# Altium schematic symbol library CubeSat-Backplane.SchLib: 39 symbols
Pins are listed as number, name and electrical type; pins without a type are passive.

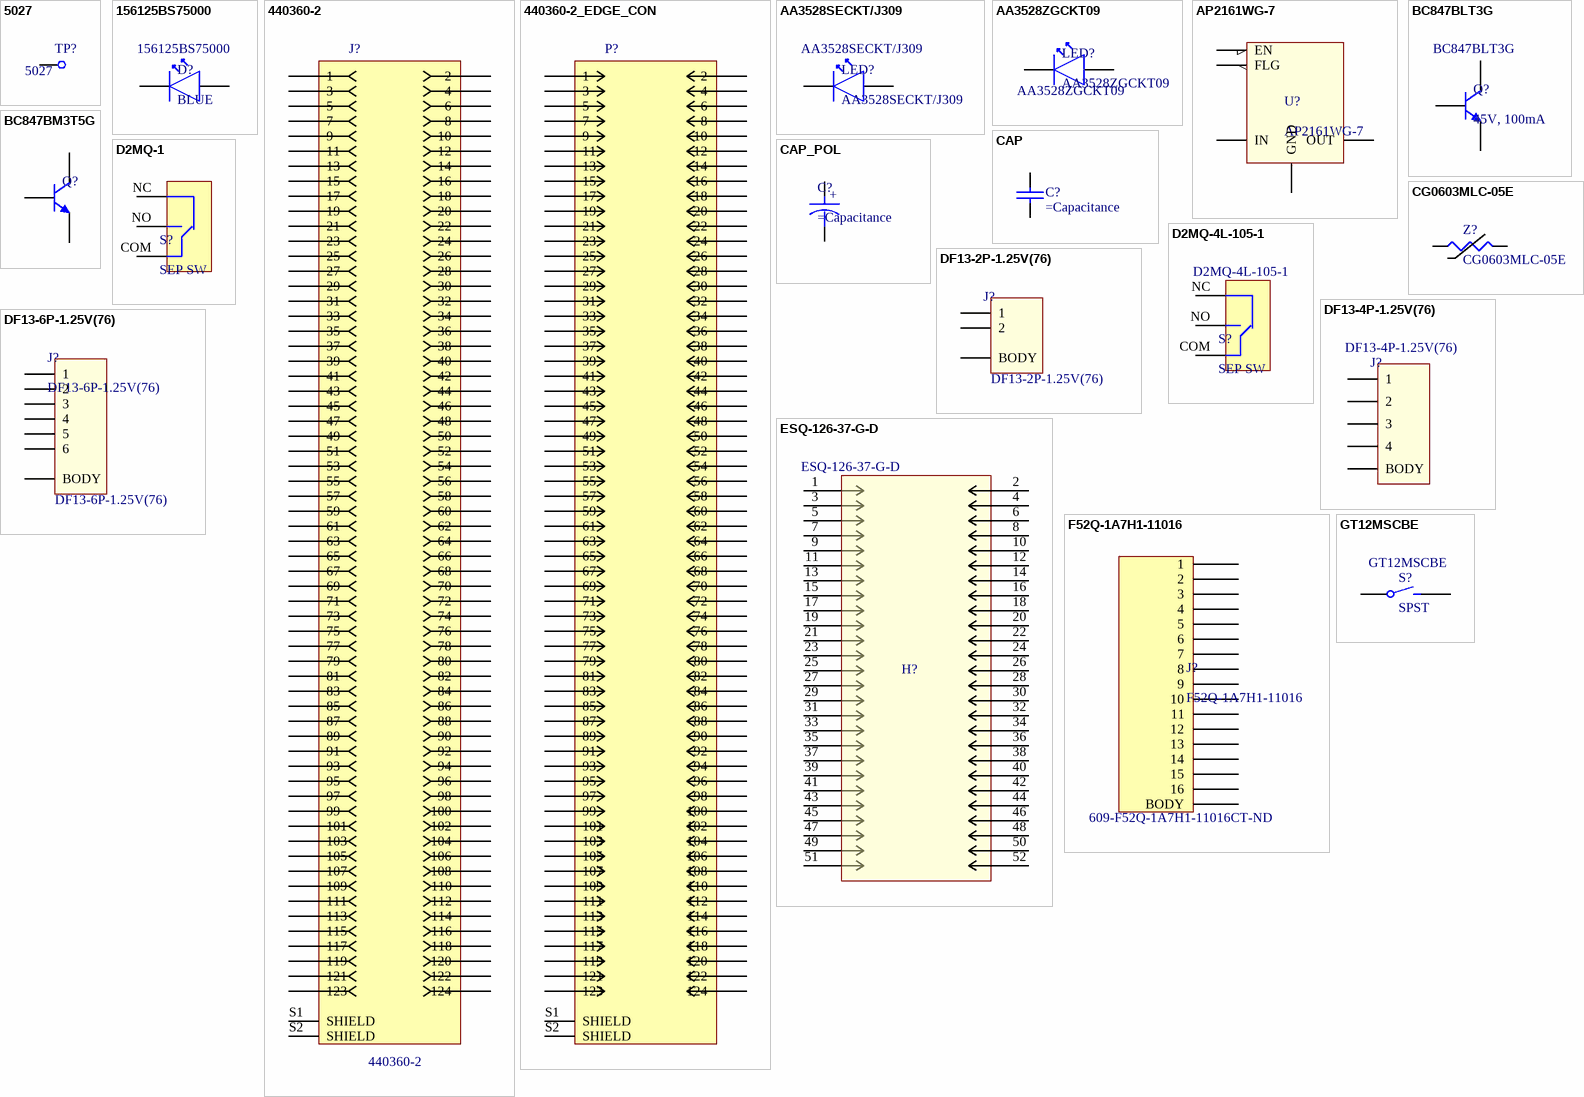
[diagram p0: symbols 5027 to GT12MSCBE]

## 5027
designator TP?
PC Test Point, Miniature Phosphor Bronze, Silver Plating Surface Mount, Through Hole Mounting Type; Manufacturer 1: Keystone Electronics; Supplier 1: Digi-Key; Supplier Part Number 1: 36-5027CT-ND; Stock 1: 12749; Pricing 1: 1=0.47000, 10=0.44700, 25=0.41640, 100=0.31440, 250=0.30096 (USD); RoHS: Yes; Mount: Surface Mount; Material: Bronze; Contact Material: Bronze; Contact Plating: Silver; Packaging: Tape and Reel; REACH SVHC: No SVHC; ComponentLink1URL: http://www.farnell.com/datasheets/1996121.pdf?src-supplier=Farnell; ComponentLink1Description: http://www.farnell.com/datasheets/1996121.pdf?src-supplier=Farnell; ComponentLink2URL: http://www.mouser.com/ds/2/215/027-741399.pdf?src-supplier=Mouser; ComponentLink2Description: http://www.mouser.com/ds/2/215/027-741399.pdf?src-supplier=Mouser; ComponentLink3URL: http://www.farnell.com/datasheets/1996121.pdf?src-supplier=Element14; ComponentLink3Description: http://www.farnell.com/datasheets/1996121.pdf?src-supplier=Element14; ComponentLink4URL: http://www.keyelco.com/product-pdf.cfm?p=14037&src-supplier=Digi-Key; ComponentLink4Description: http://www.keyelco.com/product-pdf.cfm?p=14037&src-supplier=Digi-Key; ComponentLink5URL: http://keyelco.com/userAssets/file/M65p55.pdf?src-supplier=Digi-Key; ComponentLink5Description: http://keyelco.com/userAssets/file/M65p55.pdf?src-supplier=Digi-Key; Manufacturer Part Number 1: 5027
footprint 5027 (PC Test Point, Miniature Phosphor Bronze, Silver Plating Surface Mount, Through Hole Mounting Type)
pins: 1

## 156125BS75000
designator D?, comment BLUE  Manufacturer Part Number 1: 156125BS75000
WL-SMRW SMD MONO-COLOR REVERSE MOUNT. Blue 470nm LED Indication - Discrete 3.2V 1205 (3212 Metric); Manufacturer 1: Wurth Electronics; Supplier 1: Digi-Key; Supplier Part Number 1: 732-13392-1-ND; Stock 1: 2740; Pricing 1: 1=0.40000, 10=0.34800, 100=0.31000, 500=0.28200, 1000=0.26156 (USD); RoHS: No
footprint WL-SMRW_1205_BLU (SMD BLU Reverse mount Waterclear, body 3.2x1.2mm)
pins: A, K

## 440360-2
designator J?
124 Position 0.8 mm Pitch Dual Row Right Angle SMT Fax Modem Socket Connector; Manufacturer 1: TE Connectivity; Number of Contacts: 124; Connector Type: Receptacle; Plating Thickness: 0.25um; High Temperature Housing: Yes; PCB Mount Retention: Without; Stackable: No; Pitch: 0.8mm; Stack Height: 7.95mm; Supplier 1: Digi-Key; Supplier Part Number 1: 440360-2-ND; Stock 1: 1122; Pricing 1: 1=7.06000, 10=6.76100, 25=6.17320, 50=5.87940, 100=5.58540, 250=4.99748, 500=4.70352, 1000=4.11558, 2500=3.90980 (USD); RoHS: Yes; Mount: Surface Mount; Contact Plating: Gold,Nickel; Contact Material: Copper Alloy; Insulation Material: Thermoplastic; Housing Material: Thermoplastic; Housing Color: Black; Number of Rows: 2; Termination: SMD/SMT; Orientation: Right Angle; Package Quantity: 20; Packaging: Tray; Number of Positions: 124; PCB Mounting Orientation: Right Angle; Radiation Hardening: No; Flammability Rating: UL94 V-0; Lead Free: Lead Free; ELV: Compliant; ComponentLink1URL: https://datasheet.ciiva.com/682/eng-cd-440360-n1-682768.pdf?src-supplier=Digi-Key; ComponentLink1Description: https://datasheet.ciiva.com/682/eng-cd-440360-n1-682768.pdf?src-supplier=Digi-Key; ComponentLink2URL: https://datasheet.ciiva.com/16319/440360-2-16319521.pdf?src-supplier=Future+Electronics; ComponentLink2Description: https://datasheet.ciiva.com/16319/440360-2-16319521.pdf?src-supplier=Future+Electronics; ComponentLink3URL: https://datasheet.ciiva.com/16651/eng-cd-440360-m2-16651345.pdf?src-supplier=Avnet+Europe; ComponentLink3Description: https://datasheet.ciiva.com/16651/eng-cd-440360-m2-16651345.pdf?src-supplier=Avnet+Europe; ComponentLink4URL: https://datasheet.ciiva.com/30217/eng-cd-440360-m2-30217173.pdf?src-supplier=Onlinecomponents.com; ComponentLink4Description: https://datasheet.ciiva.com/30217/eng-cd-440360-m2-30217173.pdf?src-supplier=Onlinecomponents.com; ComponentLink5URL: https://datasheet.ciiva.com/15171/getdatasheetpartid-194917-15171718.pdf?src-supplier=Verical; ComponentLink5Description: https://datasheet.ciiva.com/15171/getdatasheetpartid-194917-15171718.pdf?src-supplier=Verical; Manufacturer Part Number 1: 440360-2
footprint 440360-2 (124 Position SODIMM Fax Modem, Mini PCI Socket Surface Mount, Right Angle)
pins: 1, 2, 3, 4, 5, 6, 7, 8, 9, 10, 11, 12, 13, 14, 15, 16, 17, 18, 19, 20, 21, 22, 23, 24, 25, 26, 27, 28, 29, 30, 31, 32, 33, 34, 35, 36, 37, 38, 39, 40, 41, 42, 43, 44, 45, 46, 47, 48, 49, 50, 51, 52, 53, 54, 55, 56, 57, 58, 59, 60, 61, 62, 63, 64, 65, 66, 67, 68, 69, 70, 71, 72, 73, 74, 75, 76, 77, 78, 79, 80, 81, 82, 83, 84, 85, 86, 87, 88, 89, 90, 91, 92, 93, 94, 95, 96, 97, 98, 99, 100, 101, 102, 103, 104, 105, 106, 107, 108, 109, 110, 111, 112, 113, 114, 115, 116, 117, 118, 119, 120, 121, 122, 123, 124, S1 SHIELD, S2 SHIELD

## 440360-2_EDGE_CON
designator P?, comment 440360-2 EDGE CON  (value not drawn)
124 Position 0.8 mm Pitch Edge Connector for 440360-2; Manufacturer 1: TE Connectivity; Number of Contacts: 124; Connector Type: Receptacle; Plating Thickness: 0.25um; High Temperature Housing: Yes; PCB Mount Retention: Without; PCB Mounting Orientation: Right Angle; Stackable: No; Pitch: 0.8mm; Stack Height: 7.95mm; Supplier 1: Digi-Key; Supplier Part Number 1: 440360-2-ND; Stock 1: 1122; Pricing 1: 1=7.06000, 10=6.76100, 25=6.17320, 50=5.87940, 100=5.58540, 250=4.99748, 500=4.70352, 1000=4.11558, 2500=3.90980 (USD); RoHS: Yes; Mount: Surface Mount; Contact Plating: Gold,Nickel; Contact Material: Copper Alloy; Insulation Material: Thermoplastic; Housing Material: Thermoplastic; Housing Color: Black; Number of Rows: 2; Termination: SMD/SMT; Orientation: Right Angle; Package Quantity: 20; Packaging: Tray; Number of Positions: 124; Radiation Hardening: No; Flammability Rating: UL94 V-0; Lead Free: Lead Free; ELV: Compliant; ComponentLink1URL: https://datasheet.ciiva.com/682/eng-cd-440360-n1-682768.pdf?src-supplier=Digi-Key; ComponentLink1Description: https://datasheet.ciiva.com/682/eng-cd-440360-n1-682768.pdf?src-supplier=Digi-Key; ComponentLink2URL: https://datasheet.ciiva.com/16319/440360-2-16319521.pdf?src-supplier=Future+Electronics; ComponentLink2Description: https://datasheet.ciiva.com/16319/440360-2-16319521.pdf?src-supplier=Future+Electronics; ComponentLink3URL: https://datasheet.ciiva.com/16651/eng-cd-440360-m2-16651345.pdf?src-supplier=Avnet+Europe; ComponentLink3Description: https://datasheet.ciiva.com/16651/eng-cd-440360-m2-16651345.pdf?src-supplier=Avnet+Europe; ComponentLink4URL: https://datasheet.ciiva.com/30217/eng-cd-440360-m2-30217173.pdf?src-supplier=Onlinecomponents.com; ComponentLink4Description: https://datasheet.ciiva.com/30217/eng-cd-440360-m2-30217173.pdf?src-supplier=Onlinecomponents.com; ComponentLink5URL: https://datasheet.ciiva.com/15171/getdatasheetpartid-194917-15171718.pdf?src-supplier=Verical; ComponentLink5Description: https://datasheet.ciiva.com/15171/getdatasheetpartid-194917-15171718.pdf?src-supplier=Verical; Manufacturer Part Number 1: 440360-2
footprint 440360-2 EDGE CON
pins: 1, 2, 3, 4, 5, 6, 7, 8, 9, 10, 11, 12, 13, 14, 15, 16, 17, 18, 19, 20, 21, 22, 23, 24, 25, 26, 27, 28, 29, 30, 31, 32, 33, 34, 35, 36, 37, 38, 39, 40, 41, 42, 43, 44, 45, 46, 47, 48, 49, 50, 51, 52, 53, 54, 55, 56, 57, 58, 59, 60, 61, 62, 63, 64, 65, 66, 67, 68, 69, 70, 71, 72, 73, 74, 75, 76, 77, 78, 79, 80, 81, 82, 83, 84, 85, 86, 87, 88, 89, 90, 91, 92, 93, 94, 95, 96, 97, 98, 99, 100, 101, 102, 103, 104, 105, 106, 107, 108, 109, 110, 111, 112, 113, 114, 115, 116, 117, 118, 119, 120, 121, 122, 123, 124, S1 SHIELD, S2 SHIELD

## AA3528SECKT/J309
designator LED?
Red 625nm LED Indication - Discrete 2.2V 2-SMD, Gull Wing; Manufacturer 1: Kingbright; Supplier 1: Digi-Key; Supplier Part Number 1: 754-AA3528SECKT/J309CT-ND; Stock 1: 1870; Pricing 1: 1=0.68000, 10=0.53200, 100=0.34130, 500=0.29348, 1000=0.22659 (USD); Manufacturer Part Number 1: AA3528SECKT/J309
footprint AA3528SECKT/J309 (Red 625nm LED Indication - Discrete 2.2V 2-SMD, Gull Wing, Reverse Mount)
pins: A, K

## AA3528ZGCKT09
designator LED?
Green 525nm LED Indication - Discrete 3.3V 2-SMD, Gull Wing; Manufacturer 1: Kingbright; Supplier 1: Digi-Key; Supplier Part Number 1: 754-AA3528ZGCKT09CT-ND; Stock 1: 1715; Pricing 1: 1=0.68000, 10=0.52600, 100=0.33780, 500=0.28528, 1000=0.22523 (USD); Manufacturer Part Number 1: AA3528ZGCKT09
footprint AA3528ZGCKT09 (Green 525nm LED Indication - Discrete 2.2V 2-SMD, Gull Wing, Reverse Mount)
pins: A, K

## AP2161WG-7
designator U?
IC PWR SW USB 1CH 1A SOT-25-5; Manufacturer 1: Diodes; Description 1: USB Power SW Hi Side Single 5.5V 1.5A 5-Pin SOT-25 T/R; Number of Outputs: 1; Current Rating: 1.5A; Max Supply Voltage: 5.5V; Min Supply Voltage: 2.7V; Interface: On/Off; On-State Resistance: 115MR; Fault Protection: Over Temperature,Reverse Current; Output Configuration: High Side; Supplier 1: Digi-Key; Manufacturer Part Number 1: AP2161WG-7; Stock 1: 4061; Pricing 1: 1=0.45, 10=0.386, 100=0.2884, 500=0.2266, 1000=0.1751 (USD); Mount: Surface Mount; Case/Package: SOT-25; Number of Pins: 5; Min Operating Temperature: -40°C; Max Operating Temperature: 85°C; Packaging: Tape and Reel; Package Quantity: 3000; Max Output Current: 1A; Voltage: 5.5V; Current: 1A; Length: 3.1mm; Height: 1.3mm; Width: 1.7mm; Radiation Hardening: No; Lead Free: Lead Free; ComponentLink1URL: https://www.verical.com/server-webapp/html/getDatasheet?partID=481898; ComponentLink1Description: https://www.verical.com/server-webapp/html/getDatasheet?partID=481898; Supplier Part Number 1: AP2161WGDICT-ND
footprint SOT25
pins: 1 OUT, 2 GND, 3 FLG, 4 EN, 5 IN

## BC847BLT3G
designator Q?, comment 45V, 100mA  Manufacturer Part Number 1: BC847BLT3G
Bipolar (BJT) Transistor NPN 45V 100mA 100MHz 300mW Surface Mount SOT-23-3 (TO-236); Manufacturer 1: ON Semiconductor; Collector Base Voltage (VCBO): 50V; Emitter Base Voltage (VEBO): 6V; Number of Elements: 1; hFE Min: 200; Collector Emitter Saturation Voltage: 600mV; Element Configuration: Single; Supplier 1: Digi-Key; Supplier Part Number 1: BC847BLT3GOSCT-ND; Stock 1: 52186; Pricing 1: 1=0.13000, 10=0.11600, 100=0.04870, 500=0.03828, 1000=0.02658 (USD); RoHS: Yes; Case/Package: SOT-23-3; Number of Pins: 3; Min Operating Temperature: -55°C; Max Operating Temperature: 150°C; Collector Emitter Voltage (VCEO): 45V; Max Power Dissipation: 300mW; Packaging: Tape and Reel; Max Collector Current: 100mA; Transition Frequency: 100MHz; Collector Emitter Breakdown Voltage: 45V; Package Quantity: 1; Frequency: 100MHz; Polarity: NPN; Max Breakdown Voltage: 45V; Max Frequency: 100MHz; Power Dissipation: 300mW; Gain Bandwidth Product: 100MHz; Voltage Rating (DC): 45V; Current Rating: 100mA; Length: 2.9mm; Height: 0.94mm; Width: 1.3mm; Radiation Hardening: No; Lead Free: Lead Free; REACH SVHC: No SVHC; Halogen Free: Halogen Free; ComponentLink1URL: https://datasheet.ciiva.com/980/bc846alt1-d-980688.pdf?src-supplier=Digi-Key; ComponentLink1Description: https://datasheet.ciiva.com/980/bc846alt1-d-980688.pdf?src-supplier=Digi-Key; ComponentLink2URL: https://datasheet.ciiva.com/11204/bc846alt1-d-11204343.pdf?src-supplier=Avnet; ComponentLink2Description: https://datasheet.ciiva.com/11204/bc846alt1-d-11204343.pdf?src-supplier=Avnet; ComponentLink3URL: https://datasheet.ciiva.com/980/bc846alt1-d-980686.pdf?src-supplier=Digi-Key; ComponentLink3Description: https://datasheet.ciiva.com/980/bc846alt1-d-980686.pdf?src-supplier=Digi-Key; ComponentLink4URL: https://datasheet.ciiva.com/980/bc846alt1-d-980687.pdf?src-supplier=Digi-Key; ComponentLink4Description: https://datasheet.ciiva.com/980/bc846alt1-d-980687.pdf?src-supplier=Digi-Key
footprint SOT23
pins: 1 B, 2 E, 3 C

## BC847BM3T5G
designator Q?  (value not drawn)
Trans GP BJT NPN 45V 0.1A Automotive 3-Pin SOT-723 T/R; Manufacturer: ON Semiconductor; Frequency: 100MHz; Max Power Dissipation: 260mW; Element Configuration: Single; Collector Base Voltage (VCBO): 50V; Emitter Base Voltage (VEBO): 6V; Max Collector Current: 100mA; Collector Emitter Saturation Voltage: 600mV; Number of Elements: 1; Power Dissipation: 600mW; Supplier 1: Digi-Key; Supplier Part Number 1: BC847BM3T5GOSCT-ND; Manufacturer Part Number: BC847BM3T5G; RoHS: Yes; Category: BJTs; Stock 1: 4493; Pricing 1: 1=0.23000, 10=0.18700, 25=0.15680, 100=0.07660, 250=0.07536, 500=0.06386, 1000=0.04437, 2500=0.04124 (USD); Case/Package: SOT-723-3; Number of Pins: 3; Contact Plating: Tin,Matte; Min Operating Temperature: -55°C; Max Operating Temperature: 150°C; Package Quantity: 1; Collector Emitter Voltage (VCEO): 45V; Gain Bandwidth Product: 100MHz; Polarity: NPN; Collector Emitter Breakdown Voltage: 45V; Transition Frequency: 100MHz; Max Breakdown Voltage: 45V; Max Frequency: 100MHz; Packaging: Tape and Reel; Length: 1.25mm; Height: 0.55mm; Width: 0.85mm; Radiation Hardening: No; Lead Free: Lead Free; REACH SVHC: No SVHC; ComponentLink1URL: https://datasheet.ciiva.com/16285/bc847bm3-d-106687-16285077.pdf?src-supplier=Mouser; ComponentLink1Description: https://datasheet.ciiva.com/16285/bc847bm3-d-106687-16285077.pdf?src-supplier=Mouser; ComponentLink2URL: https://datasheet.ciiva.com/6359/bc847bm3-d-6359655.pdf?src-supplier=Digi-Key; ComponentLink2Description: https://datasheet.ciiva.com/6359/bc847bm3-d-6359655.pdf?src-supplier=Digi-Key; ComponentLink3URL: https://datasheet.ciiva.com/11204/bc847bm3-d-11204345.pdf?src-supplier=Avnet; ComponentLink3Description: https://datasheet.ciiva.com/11204/bc847bm3-d-11204345.pdf?src-supplier=Avnet; ComponentLink4URL: https://datasheet.ciiva.com/6359/bc847bm3-d-6359658.pdf?src-supplier=Digi-Key; ComponentLink4Description: https://datasheet.ciiva.com/6359/bc847bm3-d-6359658.pdf?src-supplier=Digi-Key
footprint SOT-723 (1.2 mm × 0.8 mm × 0.55 mm body: three terminals: flat lead)
pins: 1 B, 2 E, 3 C

## CAP
designator C?
Digi-Key P/N: *; Material: *; Voltage: *; Manufacturer: *
footprint 1206
footprint 0805
footprint 0603
pins: 1, 2

## CAP_POL
designator C?
footprint TACR
pins: 1, 2
text: +

## CG0603MLC-05E
designator Z?
VARISTOR 0603; Manufacturer: Bourns Inc.; Manufacturer Part Number 1: CG0603MLC-05E; Supplier Part Number 1: CG0603MLC-05ECT-ND; Supplier 1: Digi-Key
footprint 0603 (Non-polarized)
pins: 1, 2

## D2MQ-1
designator S?, comment SEP SW
Basic / Snap Action Switches PIN PLUNGER AG-P; Manufacturer: Omron; Manufacturer Part Number: D2MQ-1; Actuator Material: Plastic; Mechanical Life: 30000Cycles; Insulation Resistance: 100MR; Switch Function: On-Mom; Max Voltage Rating (DC): 30V; Max Current Rating: 500mA; Pretravel: 0.015inch; Differential Travel: 0.004inch; Operating Position: 0.224inch; Electrical Life: 10000Cycles; Throw Configuration: SPDT; Operating Force: 1.18N; Ratings: IP40; Supplier 1: Digi-Key; Supplier Part Number 1: SW145-ND; RoHS: Yes; Category: Snap Action / Limit Switches; Pricing 1: 1=3.02000, 10=2.79100, 25=2.61680, 50=2.55860, 100=2.03520, 250=1.91888, 500=1.81712 (USD); Mount: Through Hole,Panel,Screw; Weight: 0.3g; Contact Plating: Silver; Contact Material: Silver; Min Operating Temperature: -15°C; Max Operating Temperature: 70°C; Package Quantity: 1000; Current Rating: 500mA; Orientation: Straight; Overtravel: 0.004inch; Termination: PC Pins; Packaging: Tray; Voltage Rating (DC): 30V; Contact Current Rating: 500mA; Length: 8.2mm; Depth: 2.7mm; Radiation Hardening: No; Lead Free: Lead Free; REACH SVHC: Unknown; ComponentLink1URL: https://datasheet.ciiva.com/14143/03587136-14143409.pdf?src-supplier=Distrelec; ComponentLink1Description: https://datasheet.ciiva.com/14143/03587136-14143409.pdf?src-supplier=Distrelec; ComponentLink2URL: https://datasheet.ciiva.com/30245/en-d2mq-30245222.pdf?src-supplier=Onlinecomponents.com; ComponentLink2Description: https://datasheet.ciiva.com/30245/en-d2mq-30245222.pdf?src-supplier=Onlinecomponents.com; ComponentLink3URL: https://datasheet.ciiva.com/2890/en-d2mq-2890972.pdf?src-supplier=Digi-Key; ComponentLink3Description: https://datasheet.ciiva.com/2890/en-d2mq-2890972.pdf?src-supplier=Digi-Key
footprint D2MQ-1 (Switch SPDT Through Hole)
pins: COM, NC, NO

## D2MQ-4L-105-1
designator S?, comment SEP SW  Manufacturer Part Number 1: D2MQ-4L-105-1
SWITCH SNAP ACTION SPDT 50MA 30V; Manufacturer 1: Omron; Mechanical Life: 30000Cycles; Operating Force: 0.39N; Electrical Life: 10000Cycles; Pretravel: 0.083inch; Differential Travel: 0.027inch; Overtravel: 0.011inch; Operating Position: 0.28inch; Switch Function: On-Mom; Ratings: IP40; Supplier 1: Digi-Key; Supplier Part Number 1: D2MQ-4L-105-1-ND; Stock 1: 5311; Pricing 1: 1=5.70000, 10=4.55800, 25=4.33040, 50=4.21640, 100=3.64670, 250=3.41876, 500=3.24780, 1000=3.13385 (USD); RoHS: Yes; Mount: Panel,Through Hole; Weight: 0.3g; Contact Plating: Gold; Contact Material: Gold; Min Operating Temperature: -15°C; Max Operating Temperature: 70°C; Throw Configuration: SPDT; Voltage Rating (DC): 30V; Max Voltage Rating (DC): 30V; Current Rating: 50mA; Package Quantity: 1000; Packaging: Tray; Termination: PC Pins; Orientation: Straight; Max Current Rating: 50mA; Contact Current Rating: 50mA; Length: 8.2mm; Depth: 2.7mm; REACH SVHC: Unknown; ComponentLink1URL: https://datasheet.ciiva.com/1530/1509324-1530722.pdf?src-supplier=Element14; ComponentLink1Description: https://datasheet.ciiva.com/1530/1509324-1530722.pdf?src-supplier=Element14; ComponentLink2URL: https://datasheet.ciiva.com/30259/en-d2mq-30259893.pdf?src-supplier=Onlinecomponents.com; ComponentLink2Description: https://datasheet.ciiva.com/30259/en-d2mq-30259893.pdf?src-supplier=Onlinecomponents.com; ComponentLink3URL: https://datasheet.ciiva.com/2891/en-d2mq-2891612.pdf?src-supplier=Digi-Key; ComponentLink3Description: https://datasheet.ciiva.com/2891/en-d2mq-2891612.pdf?src-supplier=Digi-Key; ComponentLink4URL: https://datasheet.ciiva.com/48510/d2mq-48510189.pdf?src-supplier=Distrelec; ComponentLink4Description: https://datasheet.ciiva.com/48510/d2mq-48510189.pdf?src-supplier=Distrelec
footprint D2MQ-xx-xxx-x (Switch SPDT Through Hole)
pins: COM, NC, NO

## DF13-2P-1.25V(76)
designator J?
CONN HEADER SMD 2POS 1.25MM; Manufacturer 1: Hirose; Supplier 1: Digi-Key; Supplier Part Number 1: H126392-ND; Stock 1: 1542; Pricing 1: 1=0.51000, 10=0.48000, 100=0.36800, 500=0.32000, 1000=0.26400 (USD); RoHS: No; Manufacturer Part Number 1: DF13-2P-1.25V(76)
footprint DF13-2P-1.25V(76) (CONN HEADER SMD 2POS 1.25MM, TH PINS)
pins: 1, 2, B BODY

## DF13-4P-1.25V(76)
designator J?
CONN HEADER SMD 4POS 1.25MM; Manufacturer 1: Hirose; Supplier 1: Digi-Key; Supplier Part Number 1: H126402-ND; Stock 1: 6877; Pricing 1: 1=0.73000, 10=0.63800, 100=0.55000, 500=0.45000, 1000=0.40000 (USD); RoHS: No; ComponentLink1URL: https://www.hirose.com/product/download/?distributor=digikey&amp;type=2d&amp;lang=en&amp;num=DF13-4P-1.25V(76)&src-supplier=Digi-Key; ComponentLink1Description: https://www.hirose.com/product/download/?distributor=digikey&amp;type=2d&amp;lang=en&amp;num=DF13-4P-1.25V(76)&src-supplier=Digi-Key; Manufacturer Part Number 1: DF13-4P-1.25V(76)
footprint DF13-4P-1.25V(75) (CONN HEADER SMD 4POS 1.25MM, TH PINS)
pins: 1, 2, 3, 4, B BODY

## DF13-6P-1.25V(76)
designator J?
CONN HEADER SMD 6POS 1.25MM; Manufacturer 1: Hirose; Supplier 1: Digi-Key; Supplier Part Number 1: H126413-ND; Stock 1: 484; Pricing 1: 1=0.90000, 10=0.79100, 100=0.68200, 500=0.55800, 1000=0.49600 (USD); RoHS: No; Manufacturer Part Number 1: DF13-6P-1.25V(76)
footprint DF13-6P-1.25V(75) (CONN HEADER SMD 6POS 1.25MM, TH PINS)
footprint DF13-6P-1.25H(XX) (CONN HEADER SMD 6POS 1.25MM, RA - TH PINS)
pins: 1, 2, 3, 4, 5, 6, B BODY

## ESQ-126-37-G-D
designator H?  (no BOM)
CONN SOCKET 52POS 0.1 GOLD PCB; Manufacturer 1: Samtec; Max Current Rating: 6.9A; Contact Resistance: 10mR; Number of Contacts: 52; Max Voltage Rating (AC): 550V; Gender: Female; Pitch: 2.54mm; Supplier 1: Digi-Key; Supplier Part Number 1: SAM9323-ND; Stock 1: 80; Pricing 1: 1=10.35000, 10=9.90000, 100=8.32500, 500=6.97500, 1000=6.16500 (USD); RoHS: Yes; Contact Plating: Gold; Contact Material: Bronze; Housing Color: Black; Housing Material: Polyester; Min Operating Temperature: -55°C; Max Operating Temperature: 125°C; Packaging: Bulk; Number of Rows: 2; Termination: Solder; Orientation: Straight; Length: 66.55mm; Depth: 4.95mm; Radiation Hardening: No; ComponentLink1URL: http://components.arrow.com/part/dataview/0323_04347927?src-supplier=Arrow+Europe; ComponentLink1Description: http://components.arrow.com/part/dataview/0323_04347927?src-supplier=Arrow+Europe; ComponentLink2URL: http://cloud.samtec.com/catalog_english/ESW_TH.PDF?src-supplier=Avnet; ComponentLink2Description: http://cloud.samtec.com/catalog_english/ESW_TH.PDF?src-supplier=Avnet; ComponentLink3URL: http://suddendocs.samtec.com/prints/esq-1xx-xx-x-x-xxx-xx-x-xx-mkt.pdf?src-supplier=Digi-Key; ComponentLink3Description: http://suddendocs.samtec.com/prints/esq-1xx-xx-x-x-xxx-xx-x-xx-mkt.pdf?src-supplier=Digi-Key; ComponentLink4URL: http://www.farnell.com/datasheets/2571080.pdf?src-supplier=Newark; ComponentLink4Description: http://www.farnell.com/datasheets/2571080.pdf?src-supplier=Newark; Manufacturer Part Number 1: ESQ-126-37-G-D
footprint ESQ-126-37-G-D (CONN SOCKET 52POS 0.1 GOLD PCB)
pins: 1, 2, 3, 4, 5, 6, 7, 8, 9, 10, 11, 12, 13, 14, 15, 16, 17, 18, 19, 20, 21, 22, 23, 24, 25, 26, 27, 28, 29, 30, 31, 32, 33, 34, 35, 36, 37, 38, 39, 40, 41, 42, 43, 44, 45, 46, 47, 48, 49, 50, 51, 52

## F52Q-1A7H1-11016
designator J?  Supplier Part Number 1: 609-F52Q-1A7H1-11016CT-ND
FLEX CONNECTOR, 1.00MM PITCH, HE; Manufacturer: Amphenol ICC / FCI; Supplier 1: Digi-Key; Manufacturer Part Number: F52Q-1A7H1-11016; RoHS: No; Stock 1: 1398; Pricing 1: 1=0.50000, 10=0.46500, 25=0.41840, 50=0.37200, 100=0.35650, 250=0.32552, 500=0.31000 (USD)
footprint F52Q-1A7H1-11016 (Pin 1 on Left) (FLEX CONNECTOR, 1.00MM PITCH, HE)
footprint F52Q-1A7H1-11016 (Pin 1 on right) (FLEX CONNECTOR, 1.00MM PITCH, HE)
pins: 1, 2, 3, 4, 5, 6, 7, 8, 9, 10, 11, 12, 13, 14, 15, 16, BODY

## GT12MSCBE
designator S?, comment SPST  Manufacturer Part Number 1: GT12MSCBE
SWITCH TOGGLE SPST 0.4VA 20V, SMT; Manufacturer 1: ITT C&K; Actuator Material: Nylon,Glass,Polyamide; Illumination Type: Non-Illuminated; Electrical Life: 40000Cycles; Switch Function: On-Off; Actuator Type: Standard Round; Actuator Length: 3.81mm; ComponentLink1URL: https://datasheet.ciiva.com/2904/bxc-105742-2904464.pdf?src-supplier=Digi-Key; ComponentLink1Description: https://datasheet.ciiva.com/2904/bxc-105742-2904464.pdf?src-supplier=Digi-Key; ComponentLink2URL: https://datasheet.ciiva.com/2904/gt-1oct13-2904462.pdf?src-supplier=Digi-Key; ComponentLink2Description: https://datasheet.ciiva.com/2904/gt-1oct13-2904462.pdf?src-supplier=Digi-Key; ComponentLink3URL: https://datasheet.ciiva.com/2904/gt-1oct13-2904463.pdf?src-supplier=Digi-Key; ComponentLink3Description: https://datasheet.ciiva.com/2904/gt-1oct13-2904463.pdf?src-supplier=Digi-Key; Supplier 1: Digi-Key; Supplier Part Number 1: CKN9050CT-ND; Stock 1: 703; Pricing 1: 1=6.28000, 10=5.96200, 25=5.80520, 50=5.64840, 100=5.49150 (USD); RoHS: Yes; Mount: Surface Mount; Case/Package: SMD/SMT; Min Operating Temperature: -30°C; Max Operating Temperature: 85°C; Package Quantity: 1; Voltage Rating (AC): 20V; Voltage Rating (DC): 20V; Packaging: Tape and Reel; Termination: Gull Wing; Throw Configuration: SPST; REACH SVHC: Unknown; Lead Free: Lead Free
footprint GT12MSCBE (SWITCH TOGGLE SPST 0.4VA 20V, SMT)
pins: 1, 3

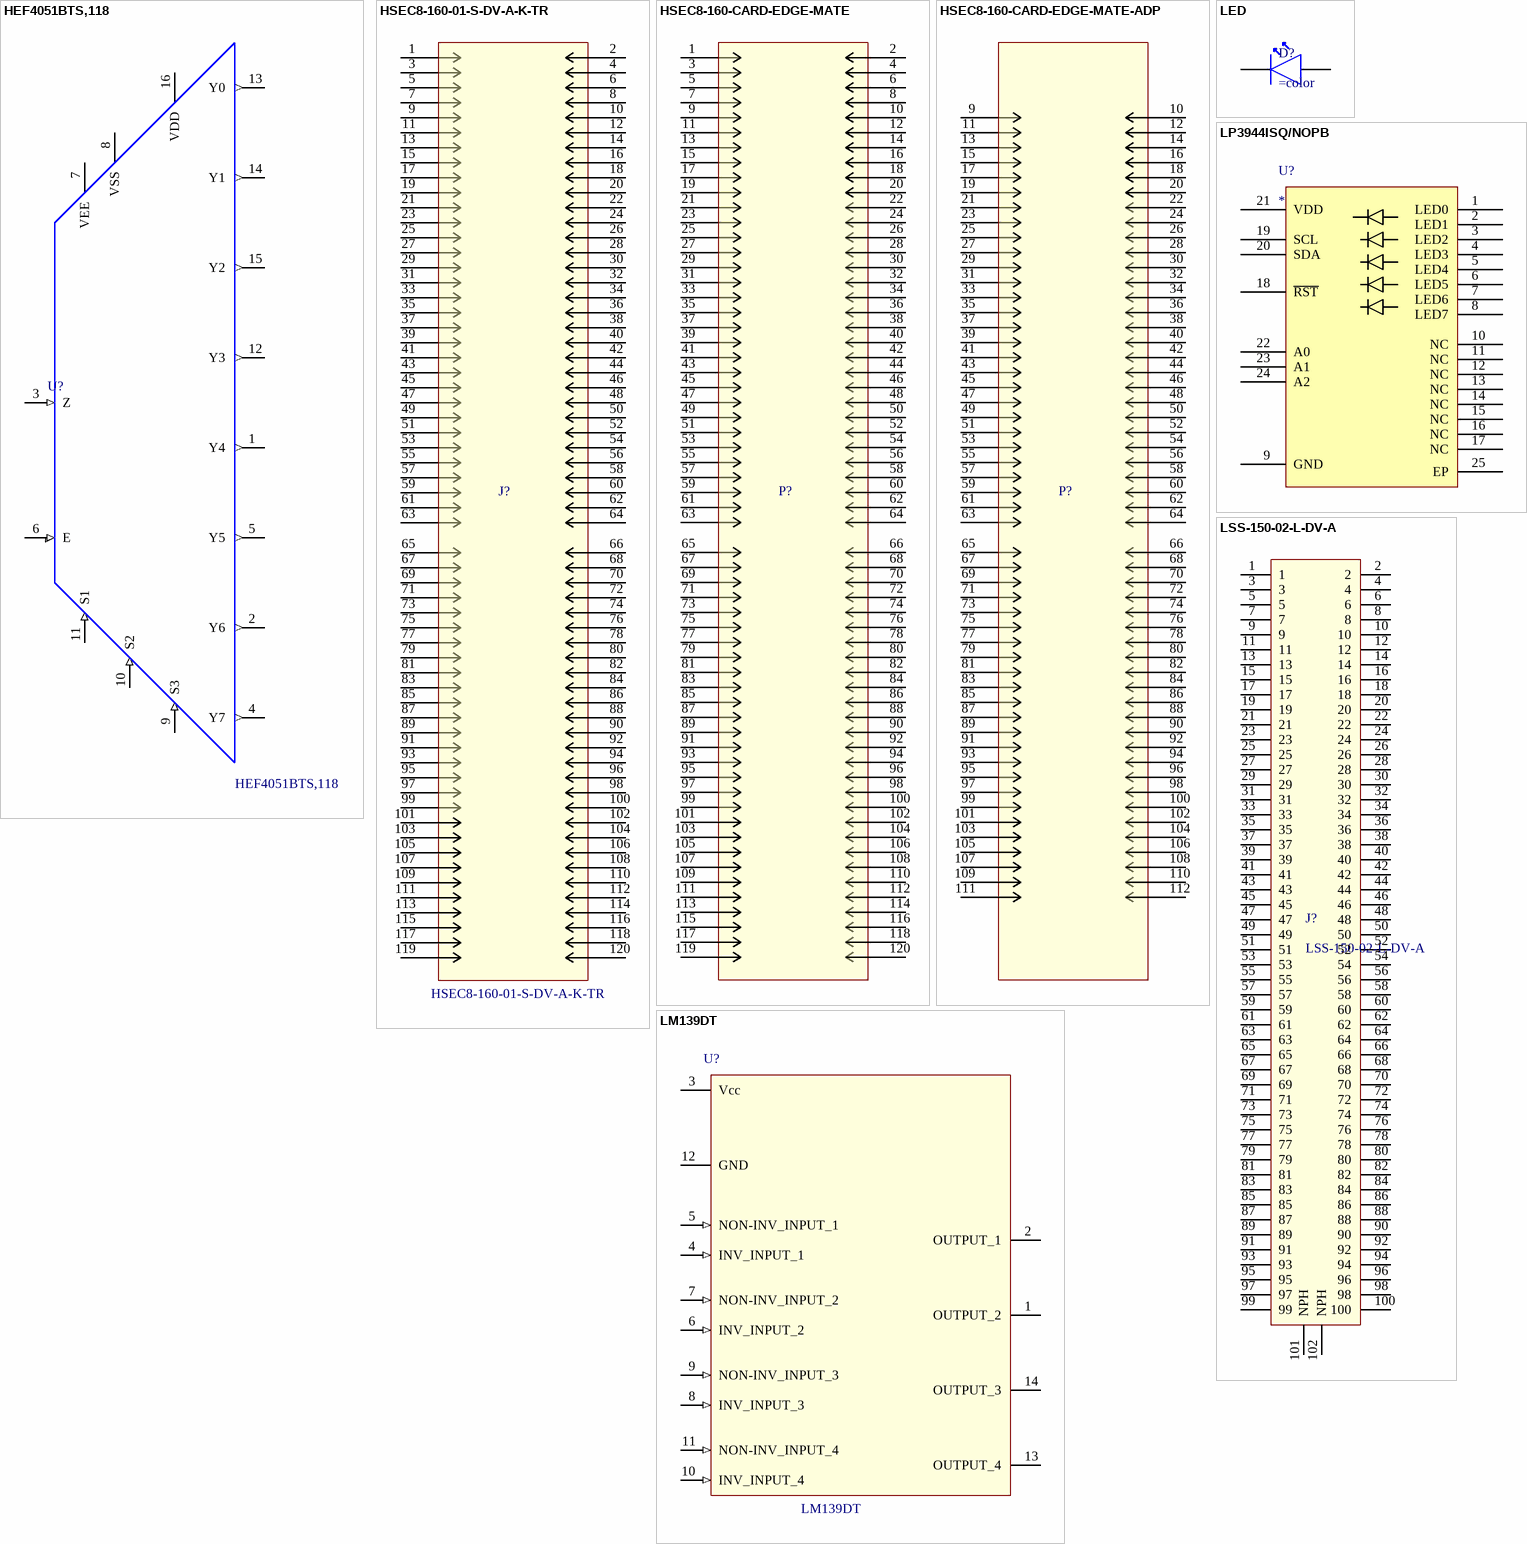
[diagram p1: symbols HEF4051BTS,118 to LSS-150-02-L-DV-A]

## HEF4051BTS,118
designator U?
1 Circuit IC Switch 8:1 155Ohm 16-SSOP; Manufacturer 1: NXP Semiconductors; Min Supply Voltage: 3V; Max Supply Voltage: 15V; Bandwidth: 70MHz; Propagation Delay: 5ns; Max Power Dissipation: 500mW; Number of Inputs: 8; Number of Outputs: 1; Logic Function: Multiplexer,Demultiplexer; On-State Resistance: 155R; Operating Supply Current: 20uA; Turn-On Delay Time: 280ns; Turn-Off Delay Time: 290ns; Supply Type: Single,Dual; Supplier 1: Digi-Key; Supplier Part Number 1: 1727-6747-1-ND; Stock 1: 1499; Pricing 1: 1=0.70000, 10=0.61200, 25=0.57480, 100=0.46910, 250=0.43568, 500=0.37080, 1000=0.29664 (USD); RoHS: Yes; Mount: Surface Mount; Case/Package: SSOP; Number of Pins: 16; Min Operating Temperature: -40°C; Max Operating Temperature: 125°C; Package Quantity: 2000; Packaging: Tape and Reel; Number of Channels: 8; Power Dissipation: 500mW; Radiation Hardening: No; Lead Free: Lead Free; ComponentLink1URL: https://datasheet.ciiva.com/17577/hef4051b-17577413.pdf?src-supplier=Avnet+Europe; ComponentLink1Description: https://datasheet.ciiva.com/17577/hef4051b-17577413.pdf?src-supplier=Avnet+Europe; ComponentLink2URL: https://datasheet.ciiva.com/1675/hef4051b-1675143.pdf?src-supplier=Digi-Key; ComponentLink2Description: https://datasheet.ciiva.com/1675/hef4051b-1675143.pdf?src-supplier=Digi-Key; ComponentLink3URL: https://datasheet.ciiva.com/11581/hef4051b-11581004.pdf?src-supplier=Avnet; ComponentLink3Description: https://datasheet.ciiva.com/11581/hef4051b-11581004.pdf?src-supplier=Avnet; Manufacturer Part Number 1: HEF4051BTS,118
footprint 16SSOP (16-SSOP (0.209", 5.30mm Width))
pins: 1 Y4 (out), 2 Y6 (out), 3 Z (in), 4 Y7 (out), 5 Y5 (out), 6 E (in), 7 VEE, 8 VSS, 9 S3 (in), 10 S2 (in), 11 S1 (in), 12 Y3 (out), 13 Y0 (out), 14 Y1 (out), 15 Y2 (out), 16 VDD

## HSEC8-160-01-S-DV-A-K-TR
designator J?
120 Position Female Connector Non Specified - Dual Edge Gold 0.031" (0.80mm) Black; Manufacturer 1: Samtec; Max Current Rating: 3.1A; Number of Positions: 120; Connector Type: Cantilever; Pitch: 0.8mm; Card Thickness: 0.062inch; Supplier 1: Digi-Key; Supplier Part Number 1: SAM13191CT-ND; Stock 1: 14; Pricing 1: 1=7.87000, 10=7.53900, 25=6.88400, 50=6.55600, 100=6.22820 (USD); RoHS: Yes; Mount: Surface Mount; Contact Plating: Gold; Contact Material: Copper; Color: Black; Housing Color: Black; Insulation Material: Polymer; Housing Material: Polymer; Min Operating Temperature: -55°C; Max Operating Temperature: 125°C; Packaging: Tape and Reel; Number of Rows: 2; Gender: Female; Termination: Solder; Number of Contacts: 120; Orientation: Straight; Radiation Hardening: No; ComponentLink1URL: https://datasheet.ciiva.com/10924/hsec8-dv-10924587.pdf?src-supplier=Avnet; ComponentLink1Description: https://datasheet.ciiva.com/10924/hsec8-dv-10924587.pdf?src-supplier=Avnet; ComponentLink2URL: https://datasheet.ciiva.com/437/hsec8-1xxx-xx-xx-dv-x-xx-mkt-437503.pdf?src-supplier=Digi-Key; ComponentLink2Description: https://datasheet.ciiva.com/437/hsec8-1xxx-xx-xx-dv-x-xx-mkt-437503.pdf?src-supplier=Digi-Key; ComponentLink3URL: https://datasheet.ciiva.com/16666/hsec8-dv-16666399.pdf?src-supplier=Avnet+Europe; ComponentLink3Description: https://datasheet.ciiva.com/16666/hsec8-dv-16666399.pdf?src-supplier=Avnet+Europe; Manufacturer Part Number 1: HSEC8-160-01-S-DV-A-K-TR
footprint HSEC8-160-01-S-DV-A-K-TR (120 Position Female Connector Non Specified - Dual Edge Gold 0.031" (0.80mm) Black)
footprint HSEC8-160-01-S-DV-A-K-TR - BREAKOUT (120 Position Female Connector Non Specified - Dual Edge Gold 0.031" (0.80mm) Black)
pins: 1, 2, 3, 4, 5, 6, 7, 8, 9, 10, 11, 12, 13, 14, 15, 16, 17, 18, 19, 20, 21, 22, 23, 24, 25, 26, 27, 28, 29, 30, 31, 32, 33, 34, 35, 36, 37, 38, 39, 40, 41, 42, 43, 44, 45, 46, 47, 48, 49, 50, 51, 52, 53, 54, 55, 56, 57, 58, 59, 60, 61, 62, 63, 64, 65, 66, 67, 68, 69, 70, 71, 72, 73, 74, 75, 76, 77, 78, 79, 80, 81, 82, 83, 84, 85, 86, 87, 88, 89, 90, 91, 92, 93, 94, 95, 96, 97, 98, 99, 100, 101, 102, 103, 104, 105, 106, 107, 108, 109, 110, 111, 112, 113, 114, 115, 116, 117, 118, 119, 120

## HSEC8-160-CARD-EDGE-MATE
designator P?, comment HSEC8-160-01-S-DV-A-K-TR  (value not drawn)  (no BOM)
Card Edge footprint for HSEC8-160-01-S-DV-A-K-TR; ComponentLink1URL: https://datasheet.ciiva.com/10924/hsec8-dv-10924587.pdf?src-supplier=Avnet; ComponentLink1Description: https://datasheet.ciiva.com/10924/hsec8-dv-10924587.pdf?src-supplier=Avnet; ComponentLink2URL: https://datasheet.ciiva.com/437/hsec8-1xxx-xx-xx-dv-x-xx-mkt-437503.pdf?src-supplier=Digi-Key; ComponentLink2Description: https://datasheet.ciiva.com/437/hsec8-1xxx-xx-xx-dv-x-xx-mkt-437503.pdf?src-supplier=Digi-Key; ComponentLink3URL: https://datasheet.ciiva.com/16666/hsec8-dv-16666399.pdf?src-supplier=Avnet+Europe; ComponentLink3Description: https://datasheet.ciiva.com/16666/hsec8-dv-16666399.pdf?src-supplier=Avnet+Europe
footprint HSEC8-160-CARD-EDGE (PCB Card Edge Footprint for HSEC8-160)
pins: 1, 2, 3, 4, 5, 6, 7, 8, 9, 10, 11, 12, 13, 14, 15, 16, 17, 18, 19, 20, 21, 22, 23, 24, 25, 26, 27, 28, 29, 30, 31, 32, 33, 34, 35, 36, 37, 38, 39, 40, 41, 42, 43, 44, 45, 46, 47, 48, 49, 50, 51, 52, 53, 54, 55, 56, 57, 58, 59, 60, 61, 62, 63, 64, 65, 66, 67, 68, 69, 70, 71, 72, 73, 74, 75, 76, 77, 78, 79, 80, 81, 82, 83, 84, 85, 86, 87, 88, 89, 90, 91, 92, 93, 94, 95, 96, 97, 98, 99, 100, 101, 102, 103, 104, 105, 106, 107, 108, 109, 110, 111, 112, 113, 114, 115, 116, 117, 118, 119, 120

## HSEC8-160-CARD-EDGE-MATE-ADP
designator P?, comment HSEC8-160-01-S-DV-A-K-TR  (value not drawn)  (no BOM)
Card Edge footprint for HSEC8-160-01-S-DV-A-K-TR Minus 16 pins; ComponentLink1URL: https://datasheet.ciiva.com/10924/hsec8-dv-10924587.pdf?src-supplier=Avnet; ComponentLink1Description: https://datasheet.ciiva.com/10924/hsec8-dv-10924587.pdf?src-supplier=Avnet; ComponentLink2URL: https://datasheet.ciiva.com/437/hsec8-1xxx-xx-xx-dv-x-xx-mkt-437503.pdf?src-supplier=Digi-Key; ComponentLink2Description: https://datasheet.ciiva.com/437/hsec8-1xxx-xx-xx-dv-x-xx-mkt-437503.pdf?src-supplier=Digi-Key; ComponentLink3URL: https://datasheet.ciiva.com/16666/hsec8-dv-16666399.pdf?src-supplier=Avnet+Europe; ComponentLink3Description: https://datasheet.ciiva.com/16666/hsec8-dv-16666399.pdf?src-supplier=Avnet+Europe
footprint HSEC8-160-CARD-EDGE-ADP (PCB Card Edge Footprint for HSEC8-160)
pins: 9, 10, 11, 12, 13, 14, 15, 16, 17, 18, 19, 20, 21, 22, 23, 24, 25, 26, 27, 28, 29, 30, 31, 32, 33, 34, 35, 36, 37, 38, 39, 40, 41, 42, 43, 44, 45, 46, 47, 48, 49, 50, 51, 52, 53, 54, 55, 56, 57, 58, 59, 60, 61, 62, 63, 64, 65, 66, 67, 68, 69, 70, 71, 72, 73, 74, 75, 76, 77, 78, 79, 80, 81, 82, 83, 84, 85, 86, 87, 88, 89, 90, 91, 92, 93, 94, 95, 96, 97, 98, 99, 100, 101, 102, 103, 104, 105, 106, 107, 108, 109, 110, 111, 112

## LED
designator D?
footprint WL-SMRW_1205_GRN (SMD GRN Reverse mount Waterclear, body 3.2x1.2mm)
footprint WL-SMRW_1205_RED (SMD GRN Reverse mount Waterclear, body 3.2x1.2mm)
footprint WL-SMRW_1205_YEL (SMD GRN Reverse mount Waterclear, body 3.2x1.2mm)
footprint APA2107x (Red 625nm LED Indication - Discrete 1.8V 2-SMD, No Lead)
pins: A, K

## LM139DT
designator U?
IC COMP QUAD LOW PWR SO-14; Manufacturer 1: STMicroelectronics; Voltage Gain: 106.02dB; Min Supply Voltage: 2V; Max Supply Voltage: 32V; Min Dual Supply Voltage: 1V; Max Dual Supply Voltage: 16V; Number of Elements: 4; Nominal Supply Current: 2mA; Max Power Dissipation: 830mW; Input Offset Voltage (Vos): 5mV; Input Bias Current: 250nA; Output Current: 16mA; Response Time: 1.3us; Output Type: TTL; Supplier 1: Digi-Key; Supplier Part Number 1: 497-6987-1-ND; Stock 1: 29876; Pricing 1: 1=0.73000, 10=0.64300, 100=0.49300, 500=0.38976, 1000=0.31181 (USD); RoHS: Yes; Mount: Surface Mount; Case/Package: SOIC; Number of Pins: 14; Min Operating Temperature: -55°C; Max Operating Temperature: 125°C; Package Quantity: 1; Packaging: Tape and Reel; Quiescent Current: 2mA; Max Input Current: 250nA; Max Supply Current: 2mA; Number of Channels: 4; Type: General Purpose; Radiation Hardening: No; Lead Free: Lead Free; ComponentLink1URL: https://datasheet.ciiva.com/26859/lm139dt-26859358.pdf?src-supplier=IIIC; ComponentLink1Description: https://datasheet.ciiva.com/26859/lm139dt-26859358.pdf?src-supplier=IIIC; ComponentLink2URL: https://datasheet.ciiva.com/1828/cd00000460-1828646.pdf?src-supplier=Digi-Key; ComponentLink2Description: https://datasheet.ciiva.com/1828/cd00000460-1828646.pdf?src-supplier=Digi-Key; ComponentLink3URL: https://datasheet.ciiva.com/1828/cd00000460-1828647.pdf?src-supplier=Digi-Key; ComponentLink3Description: https://datasheet.ciiva.com/1828/cd00000460-1828647.pdf?src-supplier=Digi-Key; ComponentLink4URL: https://datasheet.ciiva.com/1828/cd00000460-1828648.pdf?src-supplier=Digi-Key; ComponentLink4Description: https://datasheet.ciiva.com/1828/cd00000460-1828648.pdf?src-supplier=Digi-Key; ComponentLink5URL: https://datasheet.ciiva.com/4463/cd00000460-4463468.pdf?src-supplier=Mouser; ComponentLink5Description: https://datasheet.ciiva.com/4463/cd00000460-4463468.pdf?src-supplier=Mouser; ComponentLink6URL: https://datasheet.ciiva.com/41459/001185731-da-01-en-ic-comparator-quad-l-lm139dt-soic-14-stm-41459927.pdf?src-supplier=Conrad; ComponentLink6Description: https://datasheet.ciiva.com/41459/001185731-da-01-en-ic-comparator-quad-l-lm139dt-soic-14-stm-41459927.pdf?src-supplier=Conrad; Manufacturer Part Number 1: LM139DT
footprint SO-14
pins: 1 OUTPUT_2 (oc), 2 OUTPUT_1 (oc), 3 Vcc (power), 4 INV_INPUT_1 (in), 5 NON-INV_INPUT_1 (in), 6 INV_INPUT_2 (in), 7 NON-INV_INPUT_2 (in), 8 INV_INPUT_3 (in), 9 NON-INV_INPUT_3 (in), 10 INV_INPUT_4 (in), 11 NON-INV_INPUT_4 (in), 12 GND (power), 13 OUTPUT_4 (oc), 14 OUTPUT_3 (oc)

## LP3944ISQ/NOPB
designator U?
IC LED DRIVER PS DIM 25MA 24WQFN
footprint LP3944ISQ/NOPB (24WQFN)
pins: 1 LED0, 2 LED1, 3 LED2, 4 LED3, 5 LED4, 6 LED5, 7 LED6, 8 LED7, 9 GND, 10 NC, 11 NC, 12 NC, 13 NC, 14 NC, 15 NC, 16 NC, 17 NC, 18 ~{RST}, 19 SCL, 20 SDA, 21 VDD, 22 A0, 23 A1, 24 A2, 25 EP

## LSS-150-02-L-DV-A
designator J?
SAMTEC 100 TERMINAL LSS SERIES; Manufacturer 1: Samtec; Manufacturer Part Number 1: LSS-150-02-L-DV-A; Supplier 1: Digi-Key; Supplier Part Number 1: SAM11463-ND
footprint LSS-150-XX-XX-DV-A (Samtec 100 pin LSS Series)
pins: 1, 2, 3, 4, 5, 6, 7, 8, 9, 10, 11, 12, 13, 14, 15, 16, 17, 18, 19, 20, 21, 22, 23, 24, 25, 26, 27, 28, 29, 30, 31, 32, 33, 34, 35, 36, 37, 38, 39, 40, 41, 42, 43, 44, 45, 46, 47, 48, 49, 50, 51, 52, 53, 54, 55, 56, 57, 58, 59, 60, 61, 62, 63, 64, 65, 66, 67, 68, 69, 70, 71, 72, 73, 74, 75, 76, 77, 78, 79, 80, 81, 82, 83, 84, 85, 86, 87, 88, 89, 90, 91, 92, 93, 94, 95, 96, 97, 98, 99, 100, 101 NPH, 102 NPH

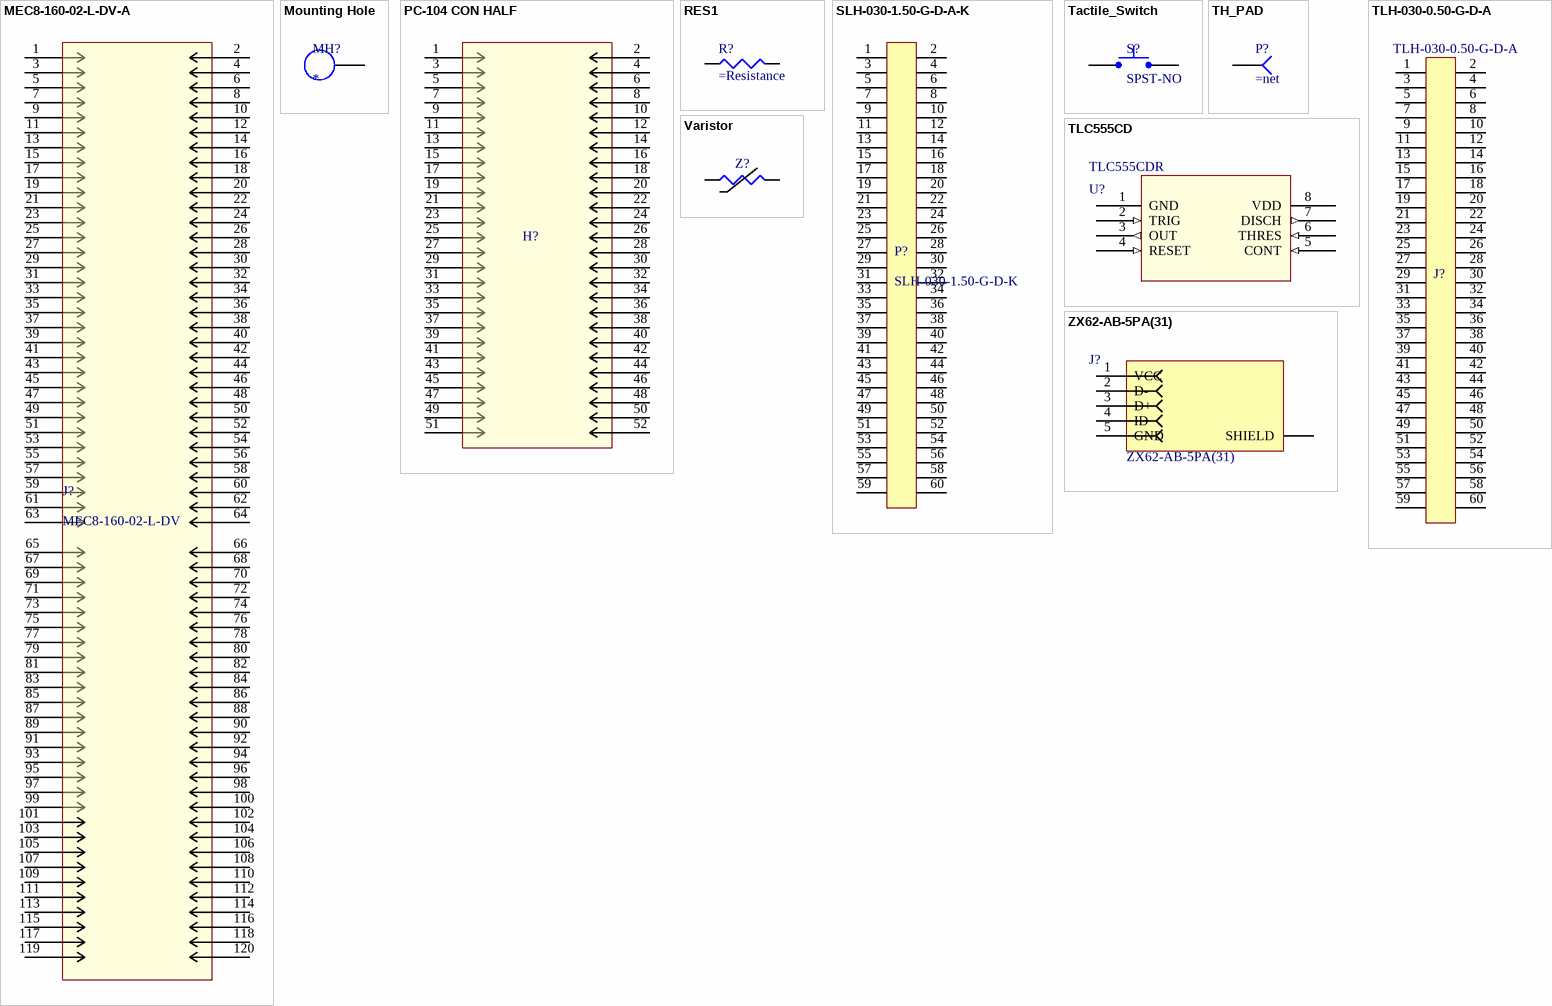
[diagram p2: symbols MEC8-160-02-L-DV-A to ZX62-AB-5PA(31)]

## MEC8-160-02-L-DV-A
designator J?, comment MEC8-160-02-L-DV
CONN EDGE DUAL FMALE 120P 0.031; Manufacturer: Samtec; Manufacturer Part Number 1: MEC8-160-02-L-DV-A; Number of Contacts: 120; Max Voltage Rating (AC): 265V; Gender: Receptacle; Pitch: 0.8mm; Supplier 1: Digi-Key; Stock 1: 24; Pricing 1: 1=9.02000, 10=8.62400, 25=7.84000, 50=7.44800, 100=7.25200, 250=6.46800, 500=6.07600, 1000=5.37040 (USD); RoHS: Yes; Mount: Surface Mount; Contact Plating: Gold; Contact Material: Bronze; Housing Color: Black; Housing Material: Polymer; Min Operating Temperature: -55°C; Max Operating Temperature: 125°C; Number of Rows: 2; Termination: Solder; Packaging: Bulk; Orientation: Straight; Radiation Hardening: No; REACH SVHC: No SVHC; ComponentLink1URL: https://datasheet.ciiva.com/10926/mec8-dv-10926390.pdf?src-supplier=Avnet; ComponentLink1Description: https://datasheet.ciiva.com/10926/mec8-dv-10926390.pdf?src-supplier=Avnet; Supplier Part Number 1: SAM15503-ND
footprint MEC8-160-XX-XX-DV-A
pins: 1, 2, 3, 4, 5, 6, 7, 8, 9, 10, 11, 12, 13, 14, 15, 16, 17, 18, 19, 20, 21, 22, 23, 24, 25, 26, 27, 28, 29, 30, 31, 32, 33, 34, 35, 36, 37, 38, 39, 40, 41, 42, 43, 44, 45, 46, 47, 48, 49, 50, 51, 52, 53, 54, 55, 56, 57, 58, 59, 60, 61, 62, 63, 64, 65, 66, 67, 68, 69, 70, 71, 72, 73, 74, 75, 76, 77, 78, 79, 80, 81, 82, 83, 84, 85, 86, 87, 88, 89, 90, 91, 92, 93, 94, 95, 96, 97, 98, 99, 100, 101, 102, 103, 104, 105, 106, 107, 108, 109, 110, 111, 112, 113, 114, 115, 116, 117, 118, 119, 120

## Mounting Hole
designator MH?  (no BOM)
footprint M3_PTH (M3 plated through-hole for pan head screw)
footprint 125MIL_HOLE
pins: 1 MH

## PC-104 CON HALF
designator H?, comment ESQ-126-38-G-D  (value not drawn)  (no BOM)
PCB Footprint for PC-104 CubeSat Header
footprint PC-104 CON HALF (Standard Cubesat Connector Footprint)
pins: 1, 2, 3, 4, 5, 6, 7, 8, 9, 10, 11, 12, 13, 14, 15, 16, 17, 18, 19, 20, 21, 22, 23, 24, 25, 26, 27, 28, 29, 30, 31, 32, 33, 34, 35, 36, 37, 38, 39, 40, 41, 42, 43, 44, 45, 46, 47, 48, 49, 50, 51, 52

## RES1
designator R?
footprint RES_603 (0603 Resistor)
footprint 0402
pins: 1, 2

## SLH-030-1.50-G-D-A-K
designator P?, comment SLH-030-1.50-G-D-K
Board to Board & Mezzanine Connectors 0.50 mm Razor Beam LP Ultra Low Profile Socket Strip
footprint SLH-030-1.50-G-D (Board to Board & Mezzanine Connectors 0.50 mm Razor Beam LP Ultra Low Profile Socket Strip)
pins: 1, 2, 3, 4, 5, 6, 7, 8, 9, 10, 11, 12, 13, 14, 15, 16, 17, 18, 19, 20, 21, 22, 23, 24, 25, 26, 27, 28, 29, 30, 31, 32, 33, 34, 35, 36, 37, 38, 39, 40, 41, 42, 43, 44, 45, 46, 47, 48, 49, 50, 51, 52, 53, 54, 55, 56, 57, 58, 59, 60

## Tactile_Switch
designator S?, comment SPST-NO
footprint KMT031 NGJ LHS (SWITCH TACTILE SPST-NO 0.05A 32V)
footprint EVQ-P7C01P (Tactile Switch SPST-NO Side Actuated Surface Mount, Right Angle)
pins: 1, 2

## TH_PAD
designator P?  (no BOM)
footprint 24AWG_TH (TH SOLDER PAD FOR 24AWG)
pins: 1

## TLC555CD
designator U?  Manufacturer Part Number 1: TLC555CDR  (hidden comment: TLC555CD)
IC OSC SGL TIMER 2.1MHZ 8-SOIC; Manufacturer 1: Texas Instruments; Quiescent Current: 250uA; Current Rating: 250A; Min Supply Voltage: 2V; Max Supply Voltage: 15V; Number of Channels: 1; Max Power Dissipation: 725mW; Operating Supply Current: 360uA; High Level Output Current: -10mA; Low Level Output Current: 100mA; ComponentLink1URL: https://datasheet.ciiva.com/19480/761264-19480039.pdf?src-supplier=Jameco; ComponentLink1Description: https://datasheet.ciiva.com/19480/761264-19480039.pdf?src-supplier=Jameco; ComponentLink2URL: https://datasheet.ciiva.com/14094/tlc555-eng-tds-14094955.pdf?src-supplier=Distrelec; ComponentLink2Description: https://datasheet.ciiva.com/14094/tlc555-eng-tds-14094955.pdf?src-supplier=Distrelec; ComponentLink3URL: https://datasheet.ciiva.com/26795/tlc555cd-26795356.pdf?src-supplier=IIIC; ComponentLink3Description: https://datasheet.ciiva.com/26795/tlc555cd-26795356.pdf?src-supplier=IIIC; ComponentLink4URL: https://datasheet.ciiva.com/1499/tlc555-1499424.pdf?src-supplier=Farnell; ComponentLink4Description: https://datasheet.ciiva.com/1499/tlc555-1499424.pdf?src-supplier=Farnell; ComponentLink5URL: https://datasheet.ciiva.com/1140/1834067-1140135.pdf?src-supplier=Element14; ComponentLink5Description: https://datasheet.ciiva.com/1140/1834067-1140135.pdf?src-supplier=Element14; ComponentLink6URL: https://datasheet.ciiva.com/6668/tlc555-6668327.pdf?src-supplier=Digi-Key; ComponentLink6Description: https://datasheet.ciiva.com/6668/tlc555-6668327.pdf?src-supplier=Digi-Key; ComponentLink7URL: https://datasheet.ciiva.com/14274/tlc555-14274491.pdf?src-supplier=Avnet; ComponentLink7Description: https://datasheet.ciiva.com/14274/tlc555-14274491.pdf?src-supplier=Avnet; ComponentLink8URL: https://datasheet.ciiva.com/26251/tlc555-26251324.pdf?src-supplier=Avnet+Europe; ComponentLink8Description: https://datasheet.ciiva.com/26251/tlc555-26251324.pdf?src-supplier=Avnet+Europe; ComponentLink9URL: https://datasheet.ciiva.com/43491/142786-da-01-en-ic-smd-tlc-555-cdg4-soic8-tid-43491738.pdf?src-supplier=Conrad; ComponentLink9Description: https://datasheet.ciiva.com/43491/142786-da-01-en-ic-smd-tlc-555-cdg4-soic8-tid-43491738.pdf?src-supplier=Conrad; Supplier 1: Digi-Key; Supplier Part Number 1: 296-1336-1-ND; Stock 1: 167836; Pricing 1: 1=0.75000, 10=0.65900, 100=0.50550, 500=0.39964, 1000=0.31971 (USD); RoHS: Yes; Mount: Surface Mount; Case/Package: SOIC; Number of Pins: 8; Weight: 0.002561oz; Min Operating Temperature: -40°C; Max Operating Temperature: 125°C; Frequency: 2.1MHz; Packaging: Cut Tape; Package Quantity: 2500; Number of Timers/Counters: 1; Power Dissipation: 725mW; Termination: SMD/SMT; Length: 4.9mm; Height: 1.58mm; Width: 3.91mm; Radiation Hardening: No; REACH SVHC: No SVHC; Lead Free: Lead Free; ComponentLink10URL: https://datasheet.ciiva.com/14274/tlc555-14274496.pdf?src-supplier=Avnet; ComponentLink10Description: https://datasheet.ciiva.com/14274/tlc555-14274496.pdf?src-supplier=Avnet; ComponentLink11URL: https://datasheet.ciiva.com/26795/tlc555cdr-26795355.pdf?src-supplier=IIIC; ComponentLink11Description: https://datasheet.ciiva.com/26795/tlc555cdr-26795355.pdf?src-supplier=IIIC; ComponentLink12URL: https://datasheet.ciiva.com/15152/getdatasheetpartid-303409-15152646.pdf?src-supplier=Verical; ComponentLink12Description: https://datasheet.ciiva.com/15152/getdatasheetpartid-303409-15152646.pdf?src-supplier=Verical; ComponentLink13URL: https://datasheet.ciiva.com/1140/1834067-1140136.pdf?src-supplier=Element14; ComponentLink13Description: https://datasheet.ciiva.com/1140/1834067-1140136.pdf?src-supplier=Element14; ComponentLink14URL: https://datasheet.ciiva.com/6668/tlc555-6668330.pdf?src-supplier=Digi-Key; ComponentLink14Description: https://datasheet.ciiva.com/6668/tlc555-6668330.pdf?src-supplier=Digi-Key; ComponentLink15URL: https://datasheet.ciiva.com/6668/tlc555-6668331.pdf?src-supplier=Digi-Key; ComponentLink15Description: https://datasheet.ciiva.com/6668/tlc555-6668331.pdf?src-supplier=Digi-Key; ComponentLink16URL: https://datasheet.ciiva.com/26251/tlc555-26251323.pdf?src-supplier=Avnet+Europe; ComponentLink16Description: https://datasheet.ciiva.com/26251/tlc555-26251323.pdf?src-supplier=Avnet+Europe; ComponentLink17URL: https://datasheet.ciiva.com/46395/1834067-46395979.pdf?src-supplier=Element14; ComponentLink17Description: https://datasheet.ciiva.com/46395/1834067-46395979.pdf?src-supplier=Element14; ComponentLink18URL: https://datasheet.ciiva.com/6668/tlc555-6668332.pdf?src-supplier=Digi-Key; ComponentLink18Description: https://datasheet.ciiva.com/6668/tlc555-6668332.pdf?src-supplier=Digi-Key; ComponentLink19URL: https://datasheet.ciiva.com/22697/1834067-22697390.pdf?src-supplier=Element14; ComponentLink19Description: https://datasheet.ciiva.com/22697/1834067-22697390.pdf?src-supplier=Element14
footprint D8
pins: 1 GND (power), 2 TRIG (in), 3 OUT (out), 4 RESET (in), 5 CONT (in), 6 THRES (in), 7 DISCH (out), 8 VDD (power)

## TLH-030-0.50-G-D-A
designator J?
Board to Board & Mezzanine Connectors 0.50 mm Razor Beam LP Ultra Low Profile Terminal Strip; Manufacturer 1: Samtec; Supplier 1: Avnet; Supplier Part Number 1: TLH-030-0.50-G-D-A; Stock 1: 0; Pricing 1: 1=4.48781, 10=4.38095, 25=4.28572, 50=4.18816, 100=3.93162 (USD); RoHS: No; Manufacturer Part Number 1: TLH-030-0.50-G-D-A
footprint TLH-030-0.50-G-D-A (Board to Board & Mezzanine Connectors 0.50 mm Razor Beam LP Ultra Low Profile Terminal Strip)
pins: 1, 2, 3, 4, 5, 6, 7, 8, 9, 10, 11, 12, 13, 14, 15, 16, 17, 18, 19, 20, 21, 22, 23, 24, 25, 26, 27, 28, 29, 30, 31, 32, 33, 34, 35, 36, 37, 38, 39, 40, 41, 42, 43, 44, 45, 46, 47, 48, 49, 50, 51, 52, 53, 54, 55, 56, 57, 58, 59, 60

## Varistor
designator Z?  (value not drawn)
footprint 0402
footprint 0603 (Non-polarized)
pins: 1, 2

## ZX62-AB-5PA(31)
designator J?
USB - micro AB USB 2.0 Receptacle Connector 5 Position Surface Mount, Right Angle; Manufacturer 1: Hirose; Number of Contacts: 5; Supplier 1: Digi-Key; Supplier Part Number 1: H125279CT-ND; Stock 1: 12299; Pricing 1: 1=0.83000, 10=0.72900, 25=0.68640, 50=0.65780, 100=0.62920, 250=0.57200, 500=0.51480, 1000=0.45760 (USD); RoHS: Yes; Mount: Surface Mount,Horizontal; Number of Pins: 5; Contact Material: Copper Alloy; Contact Plating: Gold; Packaging: Cut Tape; Connector Type: USB; Gender: Receptacle; Orientation: Right Angle; Lead Free: Lead Free; ComponentLink1URL: http://www.farnell.com/datasheets/2691174.pdf?src-supplier=Farnell; ComponentLink1Description: http://www.farnell.com/datasheets/2691174.pdf?src-supplier=Farnell; ComponentLink2URL: https://www.hirose.com/product/en/download_file/key_name/ZX62-AB-5PA%2831%29/category/Specification%20Sheet/doc_file_id/87499/?file_category_id=9&item_id=02420045731&is_series=&src-supplier=Digi-Key; ComponentLink2Description: https://www.hirose.com/product/en/download_file/key_name/ZX62-AB-5PA%2831%29/category/Specification%20Sheet/doc_file_id/87499/?file_category_id=9&item_id=02420045731&is_series=&src-supplier=Digi-Key; Manufacturer Part Number 1: ZX62-AB-5PA(31)
footprint CONN5_ZX62-AB-5P
pins: 1 VCC, 2 D-, 3 D+, 4 ID, 5 GND, 6 SHIELD